# EAGLE library part WE-DS_212612043 (library Wurth_Elektronik_Passive_rev16c)
WE-DS D-SUB-Filter Connectors Bent 90° Characteristics Standard type filtered with 1000 pF High attenuation of more than 40 dB @ 180 MHz Choice of earthing metal sheet or high speed earthing clip Rated voltage: 100 VDC Rated current @ 20 ºC: 5 A Withstand voltage: 250 VRMS Insulation resistance: min. 1000 MΩ Operating temperature: –55 ºC to +125 ºC Applications Filtering of interfaces External connection to -printer -sensor -display <http://katalog.we-online.de/media/thumbs2/eisos/thb_AbsDSubFilter_abgewinkelt_pf2.jpg> Details see: http://katalog.we-online.de/en/pbs/Filter_abgewinkelt Created on 2015-05-04 2015 (C) Wurth Elektronik
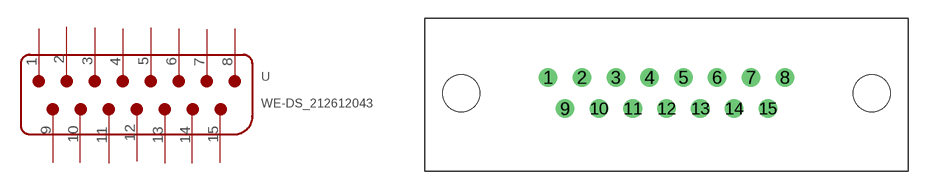
[diagram p198: symbol with the pads of WE-DS_2126120X3; footprint WE-DS_2126120X3]

Designator prefix -

## WE-DS_212612043  [WE-DS_2126120X3]
1  1
2  2
3  3
4  4
5  5
6  6
7  7
8  8
9  9
10  10
11  11
12  12
13  13
14  14
15  15

## Footprint WE-DS_2126120X3 (pad centres in mm)
drill 1: 1 -9.6,1.27; 2 -6.86,1.27; 3 -4.11,1.27; 4 -1.37,1.27; 5 1.37,1.27; 6 4.11,1.27; 7 6.86,1.27; 8 9.6,1.27; 9 -8.23,-1.27; 10 -5.48,-1.27; 11 -2.74,-1.27; 12 0,-1.27; 13 2.74,-1.27; 14 5.48,-1.27; 15 8.23,-1.27
hole 3 at -16.65,0
hole 3 at 16.65,0